# Altium footprint library Counter_Shift_Registers.PcbLib: 1 footprints
Each footprint in its own frame and in the unit in brackets; x right, y up, seen from the top. Pads: shape width x height; smd on the part's side, far side on the other; paste and mask are expansions set on the pad; w line width, h text height; cw(c..) or ccw(c..) is an arc to the next point about the centre after c.
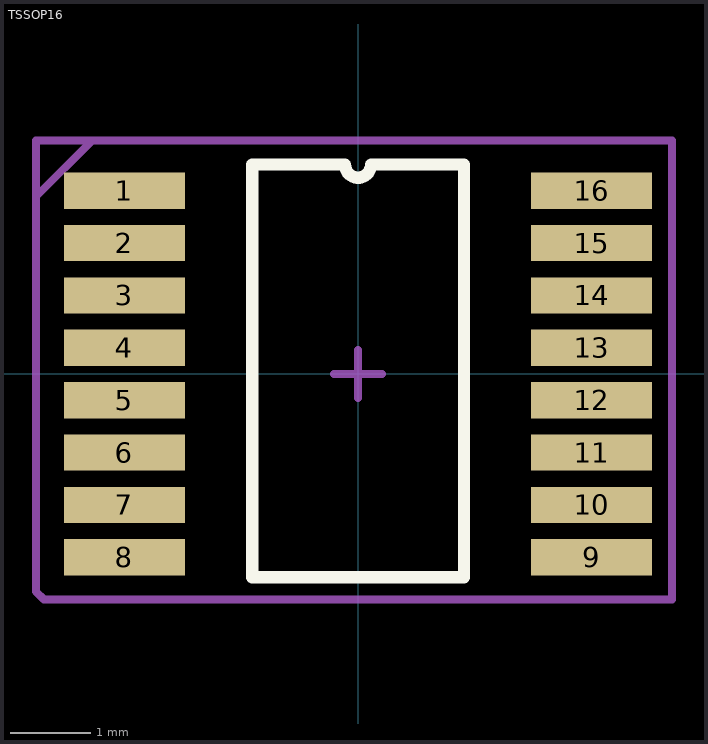
[diagram p0: the footprint, top view; thin cyan lines are the x and y axes]

## TSSOP16 [mm]
pads (16):
  rect 1.5x0.45 smd: 1(-2.9,2.275) 2(-2.9,1.625) 3(-2.9,0.975) 4(-2.9,0.325) 5(-2.9,-0.325) 6(-2.9,-0.975) 7(-2.9,-1.625) 8(-2.9,-2.275) 9(2.9,-2.275) 10(2.9,-1.625) 11(2.9,-0.975) 12(2.9,-0.325) 13(2.9,0.325) 14(2.9,0.975) 15(2.9,1.625) 16(2.9,2.275)
Top Overlay:
  lines w0.153: -1.315,-2.525 -1.315,2.6 -0.162,2.6 ccw(c0,2.6) 0.162,2.6 1.315,2.6 1.315,-2.525 -1.315,-2.525
  text "." at -4.347,3.053 h0.8
Top Assembly:
  lines w0.1: -4,1.9 -4,2.1 ; -4,2 -4,2.2 -3.3,2.9 ; -4,-2.7 -4,2.9 3.9,2.9 3.9,-2.8 -3.9,-2.8 -4,-2.7
  text "'.Designator'" at -3.346,3.762 h1.52
Mechanical 15:
  lines w0.1: -4,1.9 -4,2.1 ; -4,2 -4,2.2 ; -0.3,0 0.3,0 ; 0,-0.3 0,0.3 ; -4,-2.7 -4,2.9 3.9,2.9 3.9,-2.8 -3.9,-2.8 -4,-2.7
3D body "TSSOP-16-1.step": height 1.1, standoff 0, extent -3.2,-2.5 3.2,2.5